# Altium footprint library GRC PCB library.PcbLib: 166 footprints (part 11 of 11)
Each footprint in its own frame and in the unit in brackets; x right, y up, seen from the top. Pads: shape width x height; smd on the part's side, far side on the other; paste and mask are expansions set on the pad; w line width, h text height; cw(c..) or ccw(c..) is an arc to the next point about the centre after c.
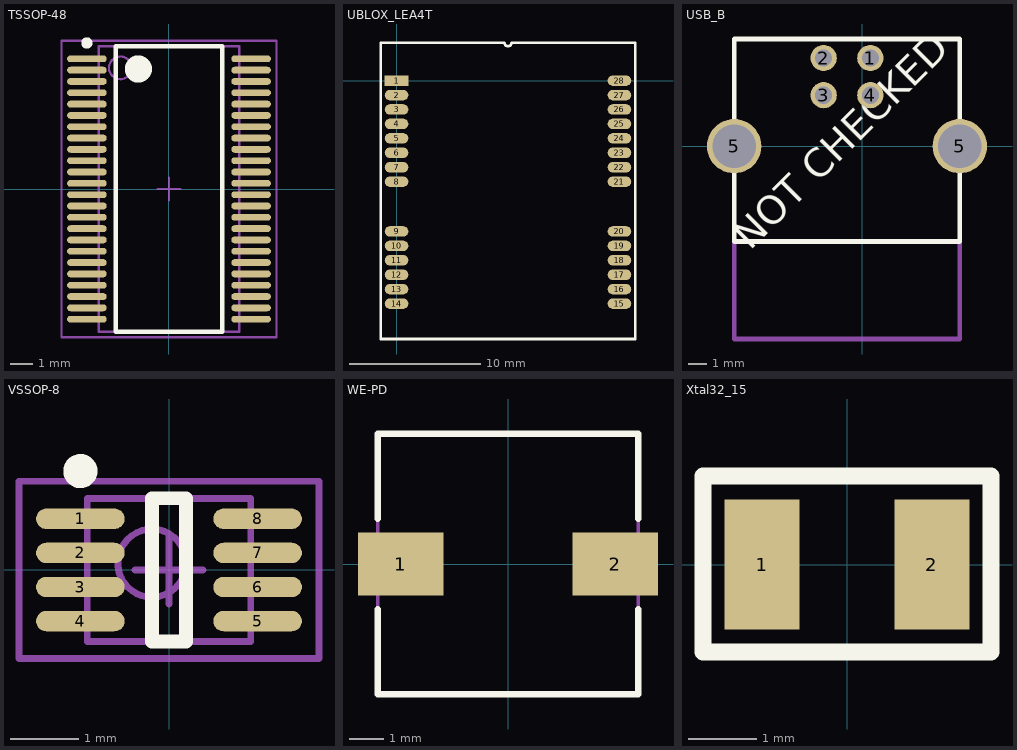
[diagram p10: the footprints below, top view; thin cyan lines are the x and y axes]

## TSSOP-48 [mm] "TSSOP, 48-Leads, Body 12.6x6.2mm (max), Pitch 0.50mm, IPC Medium Density"
height 1.2
pads (48):
  oval 1.75x0.3 smd: 1(-3.625,5.75) 2(-3.625,5.25) 3(-3.625,4.75) 4(-3.625,4.25) 5(-3.625,3.75) 6(-3.625,3.25) 7(-3.625,2.75) 8(-3.625,2.25) 9(-3.625,1.75) 10(-3.625,1.25) 11(-3.625,0.75) 12(-3.625,0.25) 13(-3.625,-0.25) 14(-3.625,-0.75) 15(-3.625,-1.25) 16(-3.625,-1.75) 17(-3.625,-2.25) 18(-3.625,-2.75) 19(-3.625,-3.25) 20(-3.625,-3.75) 21(-3.625,-4.25) 22(-3.625,-4.75) 23(-3.625,-5.25) 24(-3.625,-5.75) 25(3.625,-5.75) 26(3.625,-5.25) 27(3.625,-4.75) 28(3.625,-4.25) 29(3.625,-3.75) 30(3.625,-3.25) 31(3.625,-2.75) 32(3.625,-2.25) 33(3.625,-1.75) 34(3.625,-1.25) 35(3.625,-0.75) 36(3.625,-0.25) 37(3.625,0.25) 38(3.625,0.75) 39(3.625,1.25) 40(3.625,1.75) 41(3.625,2.25) 42(3.625,2.75) 43(3.625,3.25) 44(3.625,3.75) 45(3.625,4.25) 46(3.625,4.75) 47(3.625,5.25) 48(3.625,5.75)
Top Overlay:
  circle w0.6: c-1.35,5.3 r0.3
  circle w0.25: c-3.625,6.45 r0.125
  lines w0.2: -2.35,-6.3 2.35,-6.3 2.35,6.3 -2.35,6.3 -2.35,-6.3
Mechanical 13:
  circle w0.1: c-2.15,5.35 r0.5
  lines w0.1: -3.1,-6.3 3.1,-6.3 3.1,6.3 -3.1,6.3 -3.1,-6.3
Mechanical 15:
  lines w0.1: -0.5,0 0.5,0 ; 0,-0.5 0,0.5 ; -4.75,-6.55 4.75,-6.55 4.75,6.55 -4.75,6.55 -4.75,-6.55
3D body: height 1.2, standoff 0.15, extent -3.1,-6.3 3.1,6.3

## UBLOX_LEA4T [mm] "uBlox GPS receiver LEA4"
height 3.3
pads (28):
  rect 1.8x0.8 smd: 1(0,0)
  oval 1.8x0.8 smd: 2(0,-1.1) 3(0,-2.2) 4(0,-3.3) 5(0,-4.4) 6(0,-5.5) 7(0,-6.6) 8(0,-7.7) 9(0,-11.5) 10(0,-12.6) 11(0,-13.7) 12(0,-14.8) 13(0,-15.9) 14(0,-17) 15(17,-17) 16(17,-15.9) 17(17,-14.8) 18(17,-13.7) 19(17,-12.6) 20(17,-11.5) 21(17,-7.7) 22(17,-6.6) 23(17,-5.5) 24(17,-4.4) 25(17,-3.3) 26(17,-2.2) 27(17,-1.1) 28(17,0)
Top Overlay:
  lines w0.2: -1.2,-19.7 -1.2,2.9 5.875,2.9 8.225,2.9 ccw(c8.5,2.9) 8.775,2.9 11.125,2.9 18.2,2.9 18.2,-19.7 -1.2,-19.7

## USB_B [mil] "Thru-Hole USB connector"
height 433.07
pads (6):
  round 55 hole 36: 1(16.72,185) 2(-81.28,185) 3(-81.28,107) 4(16.72,107)
  round 114.17 hole 91: 5(-269.28,0) 5(204.72,0)
Top Overlay:
  lines w10: -269.28,-200 -269.28,225 204.72,225 204.72,-200 -269.28,-200
  text "NOT CHECKED" at -235.04,-220.47 h60
Mechanical 1:
  lines w10: -269.28,-200 -269.28,-405 204.72,-405 204.72,-200

## VSSOP-8 [mm] "TSSOP, 8-Leads, Body 2.1x2.4mm (max), Pitch 0.50mm, IPC Medium Density"
height 1
pads (8):
  oval 1.3x0.3 smd: 1(-1.3,0.75) 2(-1.3,0.25) 3(-1.3,-0.25) 4(-1.3,-0.75) 5(1.3,-0.75) 6(1.3,-0.25) 7(1.3,0.25) 8(1.3,0.75)
Top Overlay:
  circle w0.25: c-1.3,1.45 r0.125
  lines w0.2: -0.25,-1.05 -0.25,1.05 0.25,1.05 0.25,-1.05 -0.25,-1.05
Mechanical 13:
  circle w0.1: c-0.25,0.1 r0.5
  lines w0.1: -1.2,-1.05 -1.2,1.05 1.2,1.05 1.2,-1.05 -1.2,-1.05
Mechanical 15:
  lines w0.1: -0.5,0 0.5,0 ; 0,-0.5 0,0.5 ; -2.2,-1.3 -2.2,1.3 2.2,1.3 2.2,-1.3 -2.2,-1.3
3D body: height 1, standoff 0, extent -1.2,-1.05 1.2,1.05

## WE-PD [mm] "Inductor 7.6x7.6mm"
height 4.8
pads (2):
  rect 2.5x1.85 smd: 1(-3.125,0) 2(3.125,0)
Top Overlay:
  lines w0.2: -3.8,-1.325 -3.8,-3.8 3.8,-3.8 3.8,-1.325 ; -3.8,1.325 -3.8,3.8 3.8,3.8 3.8,1.325
Mechanical 13:
  lines w0.1: -3.8,-3.8 3.8,-3.8 3.8,3.8 -3.8,3.8 -3.8,-3.8

## Xtal32_15 [mil] "Xtal 3.2 x 1.5mm footprint"
height 118.11
pads (2):
  rect 43x75 smd: 1(-49,0) 2(49,0)
Top Overlay:
  lines w10: -83.07,-50.39 -83.07,-49.93 -83.07,51.18 83.07,51.18 83.07,-50.39 -83.07,-50.39